# EAGLE library part USB_MICRO_SOCKET (library Cerebro-library)
horizontal socket. Digikey 609-4616-1-ND
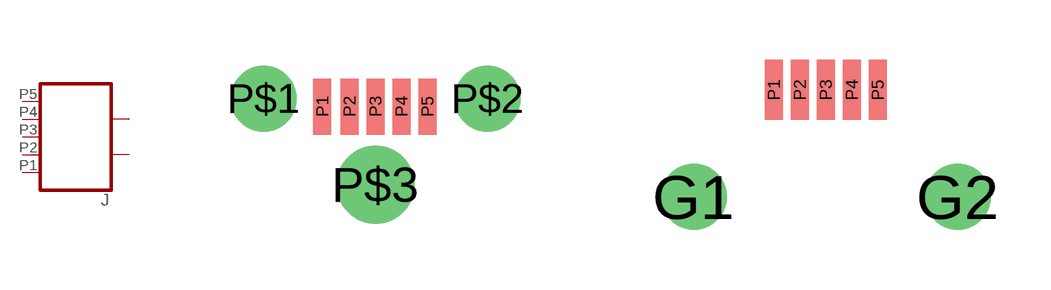
[diagram p2: symbol with the pads of USB_VERT_MICRO_SMD; footprints USB_VERT_MICRO_SMD, USB_HORZ_MICRO_SMD]

Designator prefix J

## USB_MICRO_SOCKET_VERT  [USB_VERT_MICRO_SMD]
P1  P1
P2  P2
P3  P3
P4  P4
P5  P5
P$1  P$1
P$2  P$2
P$3  P$2

## USB_MICRO_SOCKET_HORZ  [USB_HORZ_MICRO_SMD]
G1  P$1
G2  P$2
P1  P1
P2  P2
P3  P3
P4  P4
P5  P5

## USB_MICRO_SOCKET_HORZ_REINFORCED  [USB_HORZ_REINFORCED_MICRO]
G1  P$1
G2  P$1
P1  P1
P2  P2
P3  P3
P4  P4
P5  P5
P$1  P$2
P$2  P$2

## Footprint USB_VERT_MICRO_SMD (pad centres in mm)
smd 0.45 x 1.4: P1 -1.33,-0.2; P2 -0.65,-0.2; P3 0,-0.2; P4 0.65,-0.2; P5 1.3,-0.2
drill 1.1: P$1 -2.8,0; P$2 2.8,0
drill 1.3: P$3 0,-2.15

## Footprint USB_HORZ_MICRO_SMD (pad centres in mm)
drill 1.1: G1 -3.3,0; G2 3.3,0
smd 0.45 x 1.5: P1 -1.3,2.675; P2 -0.65,2.675; P3 0,2.675; P4 0.65,2.675; P5 1.3,2.675

## Footprint USB_HORZ_REINFORCED_MICRO (pad centres in mm)
drill 1: G1 -3.5,0; G2 3.5,0
smd 0.4 x 1.35: P1 -1.3,2.7; P2 -0.65,2.7; P3 0,2.7; P4 0.65,2.7; P5 1.3,2.7
drill 0.7: P$1 -2.5,2.7; P$2 2.5,2.7